# EAGLE library part 61001613321 (library Wurth_Elektronik2)
WR-PHD 2.54mm SMT Socket Header, 16 Pins=>Code : CON_BTB_SHD_2.54_1_SMT_61001613321 <http://katalog.we-online.de/media/images/eican/Con_BTB_SHD_2.54_1_SMT_6100xx11921_pf2.jpg> Details see: http://katalog.we-online.de/en/em/610_0xx_119_21 Created 2014-05-30, Karrer Zheng 2014 (C) Würth Elektronik
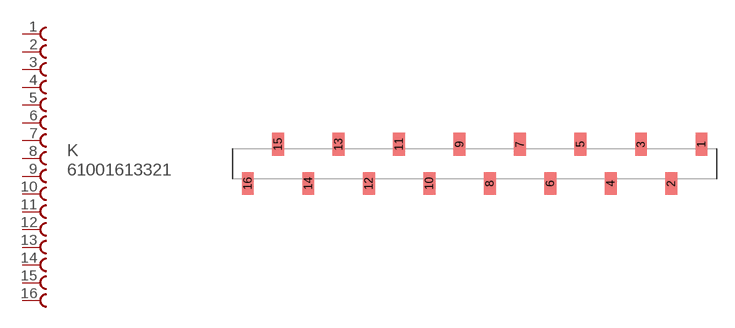
[diagram p209: symbol with the pads of 61001613321; footprint 61001613321]

Designator prefix K

## 61001613321  [61001613321]
1  1  pas
2  2  pas
3  3  pas
4  4  pas
5  5  pas
6  6  pas
7  7  pas
8  8  pas
9  9  pas
10  10  pas
11  11  pas
12  12  pas
13  13  pas
14  14  pas
15  15  pas
16  16  pas

## Footprint 61001613321 (pad centres in mm)
WR-PHD 2.54mm SMT Socket Header, 16 Pins
smd 1 x 1.91: 1 17.78,1.645; 2 15.24,-1.645; 3 12.7,1.645; 4 10.16,-1.645; 5 7.62,1.645; 6 5.08,-1.645; 7 2.54,1.645; 8 0,-1.645; 9 -2.54,1.645; 10 -5.08,-1.645; 11 -7.62,1.645; 12 -10.16,-1.645; 13 -12.7,1.645; 14 -15.24,-1.645; 15 -17.78,1.645; 16 -20.32,-1.645